# Altium schematic symbol library Atmel.SchLib: 3 symbols
Pins are listed as number, name and electrical type; pins without a type are passive.

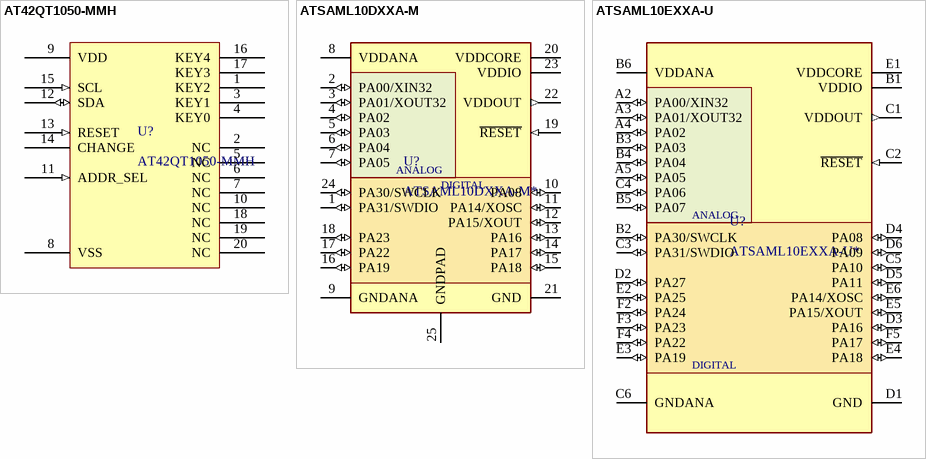
[diagram p0: symbols AT42QT1050-MMH to ATSAML10EXXA-U]

## AT42QT1050-MMH
designator U?
Manufacturer: Atmel; Part Number: AT42QT1050-MMH; Value: *; Device Package: *; Mounting Type: SMT; Operating Temperature: *; Package / Case: *; Size / Dimension: *; Thickness (Max): *; Tolerance: *; Digikey link: *; Mouser link: *
footprint AT42QT1050-MMH (QFN, 20-Leads, Body 3.00x3.00mm, Pitch 0.45mm, Thermal Pad 1.55x1.55mm, IPC Medium Density)
pins: 1 KEY2, 2 NC, 3 KEY1, 4 KEY0, 5 NC, 6 NC, 7 NC, 8 VSS (power), 9 VDD (power), 10 NC, 11 ADDR_SEL (in), 12 SDA (io), 13 RESET (in), 14 CHANGE (oc), 15 SCL (in), 16 KEY4, 17 KEY3, 18 NC, 19 NC, 20 NC

## ATSAML10DXXA-M
designator U?, comment ATSAML10DXXA-M*
ARM® Cortex®-M23 SAM L10 Microcontroller IC 32-Bit 32MHz 16-64KB FLASH 24-VQFN (4x4); Manufacturer: Microchip (Atmel); Part Number: ATSAML10DXXA-M*; Value: ATSAML10DXXA-M*; Device Package: VQFN-24; Mounting Type: SMT; Operating Temperature: *; Size / Dimension: *; Thickness (Max): *; Distributor link 1: *; Distributor link 2: *; Distributor link 3: *; Link: https://www.microchip.com/wwwproducts/en/ATSAML10E16A
footprint VQFN24 (Atmel VQFN-24 0.5mm pitch 4x4mm body)
pins: 1 PA31/SWDIO (io), 2 PA00/XIN32 (io), 3 PA01/XOUT32 (io), 4 PA02 (io), 5 PA03 (io), 6 PA04 (io), 7 PA05 (io), 8 VDDANA (power), 9 GNDANA (power), 10 PA08 (io), 11 PA14/XOSC (io), 12 PA15/XOUT (io), 13 PA16 (io), 14 PA17 (io), 15 PA18 (io), 16 PA19 (io), 17 PA22 (io), 18 PA23 (io), 19 ~{RESET} (in), 20 VDDCORE (power), 21 GND (power), 22 VDDOUT (out), 23 VDDIO (power), 24 PA30/SWCLK (io), 25 GNDPAD (power)
text: ANALOG; DIGITAL

## ATSAML10EXXA-U
designator U?, comment ATSAML10EXXA-U*
ARM® Cortex®-M23 SAM L10 Microcontroller IC 32-Bit 32MHz 16-64KB FLASH 32-WLCSP (2.79 x 2.79); Manufacturer: Microchip (Atmel); Part Number: ATSAML10EXXA-U*; Value: ATSAML10EXXA-U*; Device Package: WLCSP-32; Mounting Type: SMT; Operating Temperature: *; Size / Dimension: *; Thickness (Max): *; Distributor link 1: *; Distributor link 2: *; Distributor link 3: *; Link: https://www.microchip.com/wwwproducts/en/ATSAML10E16A
footprint WLCSP32
pins: A2 PA00/XIN32 (io), A3 PA01/XOUT32 (io), A4 PA02 (io), A5 PA05 (io), B1 VDDIO (power), B2 PA30/SWCLK (io), B3 PA03 (io), B4 PA04 (io), B5 PA07 (io), B6 VDDANA (power), C1 VDDOUT (out), C2 ~{RESET} (in), C3 PA31/SWDIO (io), C4 PA06 (io), C5 PA10 (io), C6 GNDANA (power), D1 GND (power), D2 PA27 (io), D3 PA16 (io), D4 PA08 (io), D5 PA11 (io), D6 PA09 (io), E1 VDDCORE (power), E2 PA25 (io), E3 PA19 (io), E4 PA18 (io), E5 PA15/XOUT (io), E6 PA14/XOSC (io), F2 PA24 (io), F3 PA23 (io), F4 PA22 (io), F5 PA17 (io)
text: ANALOG; DIGITAL